# Altium schematic symbol library Tant_7343.SchLib: 1 symbol
Pins are listed as number, name and electrical type; pins without a type are passive.

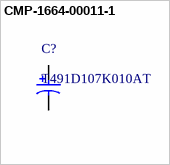
[diagram p0: symbol CMP-1664-00011-1]

## CMP-1664-00011-1
designator C?, comment T491D107K010AT
Capacitor, Tantalum, 100 uF, +/- 10%, -55 to 125 degC, 2-Pin SMD, RoHS, Tape and Reel; Voltage Rating: 50 V; Case\Package: Radial; Tolerance: 20%; Capacitance: 2.2 uF; Lead Pitch: 2 mm; PackageReference: T491-D; REACH SVHC: No SVHC; Diameter: 5 mm; Pins: 2; PackageDescription: 2-Pin Surface Mount Device, Body 7.3 x 4.3 mm; ComponentLink1URL: http://www.kemet.com/; ComponentLink2URL: http://www.kemet.com/Lists/ProductCatalog/Attachments/254/KEM_T2005_T491.pdf; Packaging: Bulk; DatasheetVersion: Jun-16; Radiation Hardening: No; Voltage Rating (DC): 50 V; ComponentLink2Description: Datasheet; Height: 11 mm; RoHSCompliant: true; Min Operating Temperature: -40 degC; Mount: Through Hole; Max Operating Temperature: 85 degC; Package Quantity: 200; Length: 11 mm; ComponentLink1Description: Manufacturer URL
footprint KEMT-T491-D_M (Molded Capacitor, 2-Leads, Body 7.60x4.60mm, IPC Low Density)
footprint KEMT-T491-D_N (Molded Capacitor, 2-Leads, Body 7.60x4.60mm, IPC Medium Density)
footprint KEMT-T491-D_L (Molded Capacitor, 2-Leads, Body 7.60x4.60mm, IPC High Density)
pins: 1, 2